# Altium schematic symbol library nxp-mpu.SchLib: 1 symbol
Pins are listed as number, name and electrical type; pins without a type are passive.

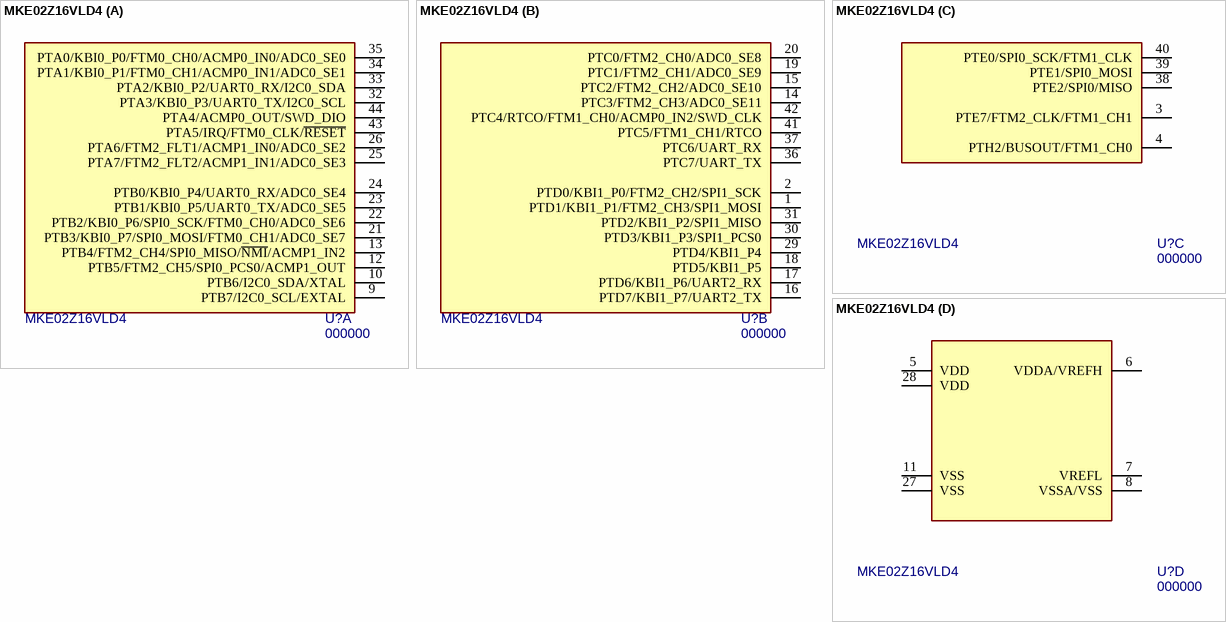
[diagram p0: symbol MKE02Z16VLD4]

## MKE02Z16VLD4
designator U?, comment 000000  value MKE02Z16VLD4
ARM Cortex-M0+,  16KB Flash, 2KB RAM; Package: LQFP44; PN: 000000; ExtraInfo: *
footprint LQFP-44 (TQFP, 44-Leads, Body 10.00x10.00mm, Pitch 0.80mm, IPC Medium Density)
part A pins: 9 PTB7/I2C0_SCL/EXTAL (hiz), 10 PTB6/I2C0_SDA/XTAL (hiz), 12 PTB5/FTM2_CH5/SPI0_PCS0/ACMP1_OUT (hiz), 13 PTB4/FTM2_CH4/SPI0_MISO/~{NMI}/ACMP1_IN2 (hiz), 21 PTB3/KBI0_P7/SPI0_MOSI/FTM0_CH1/ADC0_SE7 (hiz), 22 PTB2/KBI0_P6/SPI0_SCK/FTM0_CH0/ADC0_SE6 (hiz), 23 PTB1/KBI0_P5/UART0_TX/ADC0_SE5 (hiz), 24 PTB0/KBI0_P4/UART0_RX/ADC0_SE4 (hiz), 25 PTA7/FTM2_FLT2/ACMP1_IN1/ADC0_SE3 (hiz), 26 PTA6/FTM2_FLT1/ACMP1_IN0/ADC0_SE2 (hiz), 32 PTA3/KBI0_P3/UART0_TX/I2C0_SCL (hiz), 33 PTA2/KBI0_P2/UART0_RX/I2C0_SDA (hiz), 34 PTA1/KBI0_P1/FTM0_CH1/ACMP0_IN1/ADC0_SE1 (hiz), 35 PTA0/KBI0_P0/FTM0_CH0/ACMP0_IN0/ADC0_SE0 (hiz), 43 PTA5/IRQ/FTM0_CLK/~{RESET} (hiz), 44 PTA4/ACMP0_OUT/SWD_DIO (hiz)
part B pins: 1 PTD1/KBI1_P1/FTM2_CH3/SPI1_MOSI (hiz), 2 PTD0/KBI1_P0/FTM2_CH2/SPI1_SCK (hiz), 14 PTC3/FTM2_CH3/ADC0_SE11 (hiz), 15 PTC2/FTM2_CH2/ADC0_SE10 (hiz), 16 PTD7/KBI1_P7/UART2_TX (hiz), 17 PTD6/KBI1_P6/UART2_RX (hiz), 18 PTD5/KBI1_P5 (hiz), 19 PTC1/FTM2_CH1/ADC0_SE9 (hiz), 20 PTC0/FTM2_CH0/ADC0_SE8 (hiz), 29 PTD4/KBI1_P4 (hiz), 30 PTD3/KBI1_P3/SPI1_PCS0 (hiz), 31 PTD2/KBI1_P2/SPI1_MISO (hiz), 36 PTC7/UART_TX (hiz), 37 PTC6/UART_RX (hiz), 41 PTC5/FTM1_CH1/RTCO (hiz), 42 PTC4/RTCO/FTM1_CH0/ACMP0_IN2/SWD_CLK (hiz)
part C pins: 3 PTE7/FTM2_CLK/FTM1_CH1 (hiz), 4 PTH2/BUSOUT/FTM1_CH0 (hiz), 38 PTE2/SPI0/MISO (hiz), 39 PTE1/SPI0_MOSI (hiz), 40 PTE0/SPI0_SCK/FTM1_CLK (hiz)
part D pins: 5 VDD (power), 6 VDDA/VREFH (power), 7 VREFL (power), 8 VSSA/VSS (power), 11 VSS (power), 27 VSS (power), 28 VDD (power)